# Altium schematic symbol library MMP8266.SchLib: 3 symbols
Pins are listed as number, name and electrical type; pins without a type are passive.

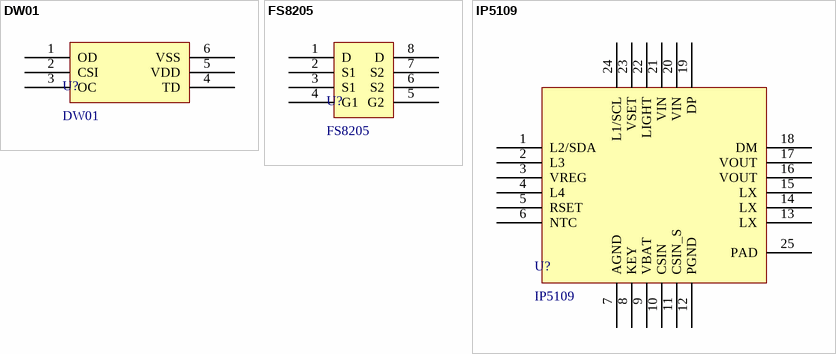
[diagram p0: symbols DW01 to IP5109]

## DW01
designator U?
footprint SOT-23-6
pins: 1 OD, 2 CSI, 3 OC, 4 TD, 5 VDD, 6 VSS

## FS8205
designator U?
footprint TSSOP-8_3X4.4X065P
pins: 1 D, 2 S1, 3 S1, 4 G1, 5 G2, 6 S2, 7 S2, 8 D

## IP5109
designator U?
footprint QFN24
pins: 1 L2/SDA, 2 L3, 3 VREG, 4 L4, 5 RSET, 6 NTC, 7 AGND, 8 KEY, 9 VBAT, 10 CSIN, 11 CSIN_S, 12 PGND, 13 LX, 14 LX, 15 LX, 16 VOUT, 17 VOUT, 18 DM, 19 DP, 20 VIN, 21 VIN, 22 LIGHT, 23 VSET, 24 L1/SCL, 25 PAD